# Altium schematic symbol library BAT54S.Schlib: 1 symbol
Pins are listed as number, name and electrical type; pins without a type are passive.

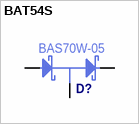
[diagram p0: symbol BAT54S]

## BAT54S
designator D?, comment Manufacturer Part Number: BAS70W-05  (hidden comment: BAT54S,235)
pins: 1 A1, 2 A2, 3 C